# Altium schematic symbol library fuse.SchLib: 1 symbol
Pins are listed as number, name and electrical type; pins without a type are passive.

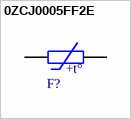
[diagram p0: symbol 0ZCJ0005FF2E]

## 0ZCJ0005FF2E
designator F?  (value not drawn)
PTC RESET FUSE 60V 50MA 1206; Manufacturer: Bel Fuse Inc.; Manufacturer Part Number: 0ZCJ0005FF2E; Category: Fusible; Datasheet: https://www.belfuse.com/resources/datasheets/circuitprotection/ds-cp-0zcj-series.pdf; Temperature Max: 85; Temperature Min: -40
footprint 0ZCJ0005FF2E
pins: 1, 2
text: +t°